# EAGLE library part IV-26-T1_DISP (library vfd-robjen)
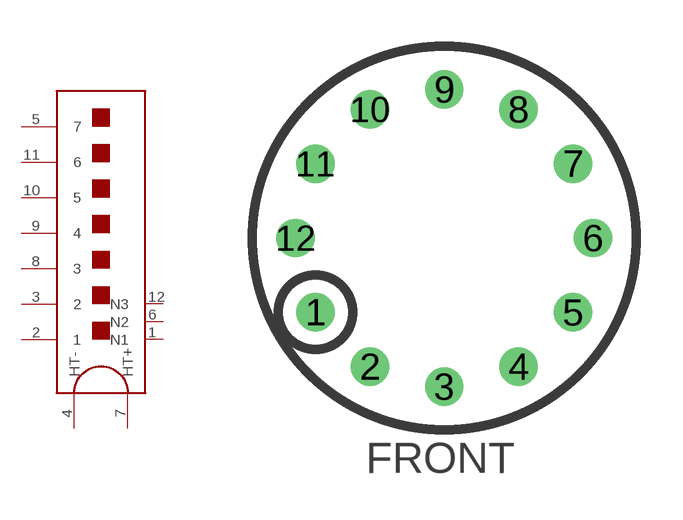
[diagram p3: symbol with the pads of IV-26; footprint IV-26]

Designator prefix -

## IV-26-T1_DISP  [IV-26]
1  N1  nc
2  1  in
3  2  in
4  HT-  pwr
5  7  in
6  N2  nc
7  HT+  pwr
8  3  in
9  4  in
10  5  in
11  6  in
12  N3  nc

## Footprint IV-26 (pad centres in mm)
Eagle SCR autogenerated 12 pin Nixie socket
drill 0.735: 1 -4.169,-2.407; 2 -2.407,-4.169; 3 0,-4.814; 4 2.407,-4.169; 5 4.169,-2.407; 6 4.814,0; 7 4.169,2.407; 8 2.407,4.169; 9 0,4.814; 10 -2.407,4.169; 11 -4.169,2.407; 12 -4.814,0